# EAGLE library part NANOESP-PRETZEL-BOARD (library Arduino)
NanoESP / Pretzel Board with Atmel MEGA328P
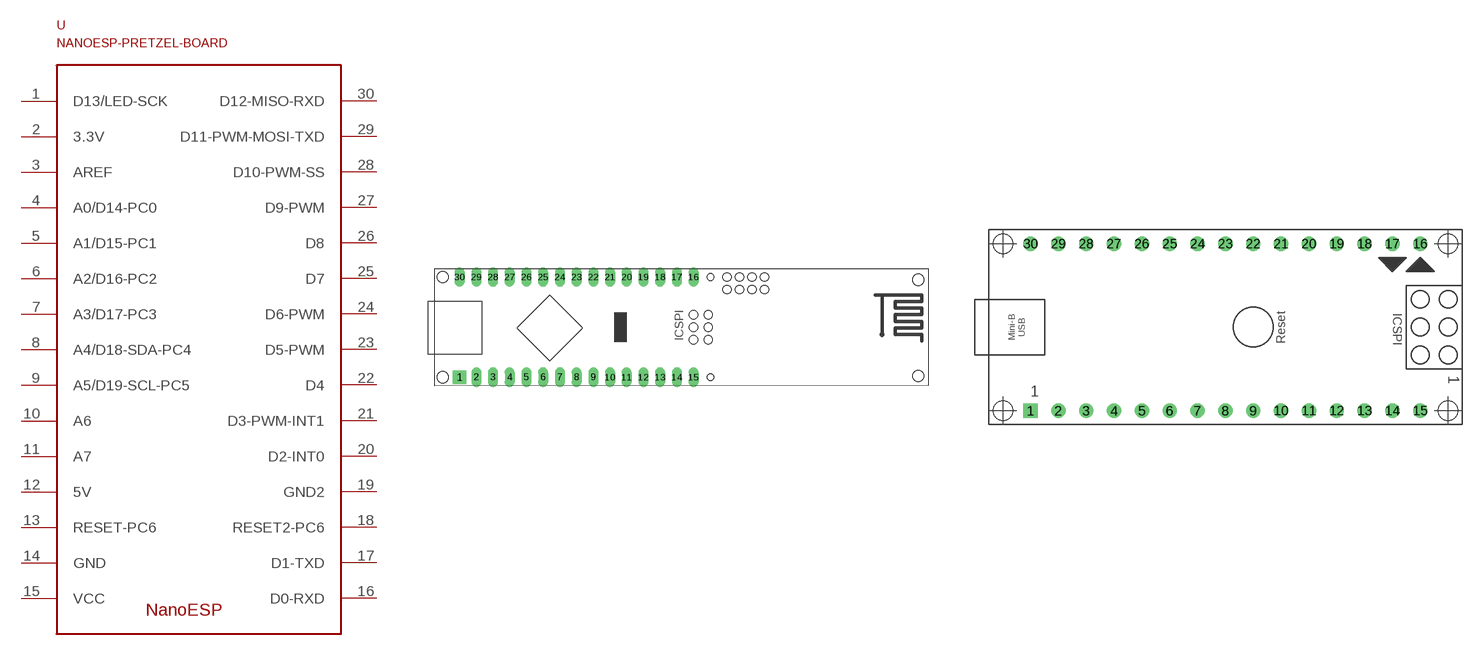
[diagram p0: symbol with the pads of NANOESP-PRETZEL; footprints NANOESP-PRETZEL, ARDUINO_NANO]

Designator prefix -

## NANOESP-PRETZEL-BOARD  [NANOESP-PRETZEL]
1  D13/LED-SCK
2  3.3V  sup
3  AREF
4  A0/D14-PC0
5  A1/D15-PC1
6  A2/D16-PC2
7  A3/D17-PC3
8  A4/D18-SDA-PC4
9  A5/D19-SCL-PC5
10  A6
11  A7
12  5V  sup
13  RESET-PC6  in
14  GND  pwr
15  VCC  pwr
16  D0-RXD  in
17  D1-TXD  out
18  RESET2-PC6  in
19  GND2  pwr
20  D2-INT0
21  D3-PWM-INT1
22  D4
23  D5-PWM
24  D6-PWM
25  D7
26  D8
27  D9-PWM
28  D10-PWM-SS
29  D11-PWM-MOSI-TXD
30  D12-MISO-RXD

## NANOESP-PRETZEL-BOARDARDUINO-NANO  [ARDUINO_NANO]
Pads as for NANOESP-PRETZEL

## Footprint NANOESP-PRETZEL (pad centres in mm)
Pretzel Board / NanoESP with MEGA328P processor
drill 1 pad 2.032 square: 1 3.81,1.27
drill 1 long: 2 6.35,1.27; 3 8.89,1.27; 4 11.43,1.27; 5 13.97,1.27; 6 16.51,1.27; 7 19.05,1.27; 8 21.59,1.27; 9 24.13,1.27; 10 26.67,1.27; 11 29.21,1.27; 12 31.75,1.27; 13 34.29,1.27; 14 36.83,1.27; 15 39.37,1.27; 16 39.37,16.51; 17 36.83,16.51; 18 34.29,16.51; 19 31.75,16.51; 20 29.21,16.51; 21 26.67,16.51; 22 24.13,16.51; 23 21.59,16.51; 24 19.05,16.51; 25 16.51,16.51; 26 13.97,16.51; 27 11.43,16.51; 28 8.89,16.51; 29 6.35,16.51; 30 3.81,16.51
hole 1.7 at 73.5,16.08
hole 1.7 at 73.5,1.48
hole 1.7 at 1.27,16.51
hole 1.7 at 1.27,1.27
hole 1 at 41.91,16.51
hole 1 at 41.91,1.27

## Footprint ARDUINO_NANO (pad centres in mm)
Arduino Nano V3.0 Module The Nano was designed and is being produced by Gravitech <http://www.gravitech.us/arna30wiatp.html>.
drill 0.8 square: 1 -20.32,-7.62
drill 0.8: 2 -17.78,-7.62; 3 -15.24,-7.62; 4 -12.7,-7.62; 5 -10.16,-7.62; 6 -7.62,-7.62; 7 -5.08,-7.62; 8 -2.54,-7.62; 9 0,-7.62; 10 2.54,-7.62; 11 5.08,-7.62; 12 7.62,-7.62; 13 10.16,-7.62; 14 12.7,-7.62; 15 15.24,-7.62; 16 15.24,7.62; 17 12.7,7.62; 18 10.16,7.62; 19 7.62,7.62; 20 5.08,7.62; 21 2.54,7.62; 22 0,7.62; 23 -2.54,7.62; 24 -5.08,7.62; 25 -7.62,7.62; 26 -10.16,7.62; 27 -12.7,7.62; 28 -15.24,7.62; 29 -17.78,7.62; 30 -20.32,7.62
hole 1.778 at -22.86,-7.62
hole 1.778 at -22.86,7.62
hole 1.778 at 17.78,7.62
hole 1.778 at 17.78,-7.62